# Altium schematic symbol library resistors.SchLib: 3 symbols
Pins are listed as number, name and electrical type; pins without a type are passive.

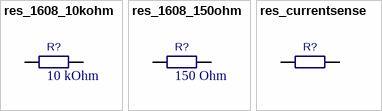
[diagram p0: symbols res_1608_10kohm to res_currentsense]

## res_1608_10kohm
designator R?, comment 10 kOhm
10 kOhm resistor (1608 metric); Watt rating: ? mW; Value: 10 kOhm
pins: 1, 2
1 alternate drawing of the same symbol

## res_1608_150ohm
designator R?, comment 150 Ohm
150 Ohm resistor (1608 metric); Watt rating: ? mW; Value: 150 Ohm
pins: 1, 2
1 alternate drawing of the same symbol

## res_currentsense
designator R?
Current sense resistor; Watt rating: ? mW
pins: 1, 2
1 alternate drawing of the same symbol